# EAGLE library part PINHD-1X25 (library 00 My Pinheaders)
PIN HEADER
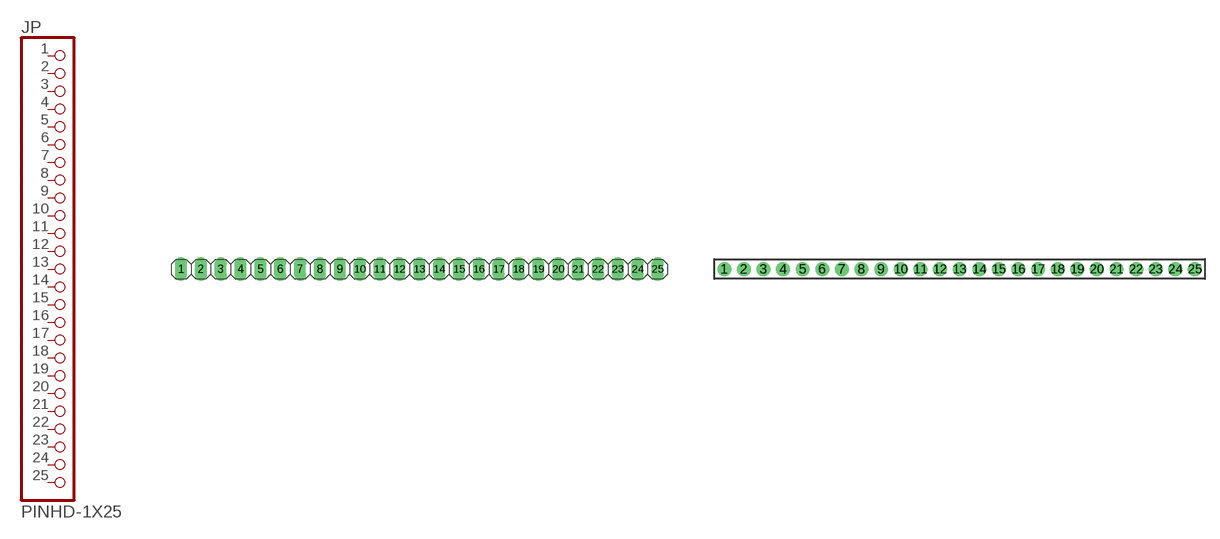
[diagram p22: symbol with the pads of 1X25; footprints 1X25, 2802S-02G2]

Designator prefix JP

## PINHD-1X25  [1X25]
1  1  pas
2  2  pas
3  3  pas
4  4  pas
5  5  pas
6  6  pas
7  7  pas
8  8  pas
9  9  pas
10  10  pas
11  11  pas
12  12  pas
13  13  pas
14  14  pas
15  15  pas
16  16  pas
17  17  pas
18  18  pas
19  19  pas
20  20  pas
21  21  pas
22  22  pas
23  23  pas
24  24  pas
25  25  pas

## PINHD-1X25_2802S-02G2  [2802S-02G2]
Pads as for 1X25

## Footprint 1X25 (pad centres in mm)
PIN HEADER
drill 1.016 long: 1 -29.21,0; 2 -26.67,0; 3 -24.13,0; 4 -21.59,0; 5 -19.05,0; 6 -16.51,0; 7 -13.97,0; 8 -11.43,0; 9 -8.89,0; 10 -6.35,0; 11 -3.81,0; 12 -1.27,0; 13 1.27,0; 14 3.81,0; 15 6.35,0; 16 8.89,0; 17 11.43,0; 18 13.97,0; 19 16.51,0; 20 19.05,0; 21 21.59,0; 22 24.13,0; 23 26.67,0; 24 29.21,0; 25 31.75,0

## Footprint 2802S-02G2 (pad centres in mm)
2mm Center - .020 inch Square Pin - Single Row Straight Header Source: http://www.commcon.com/main
drill 0.8 pad 1.422: 1 -24,0; 2 -22,0; 3 -20,0; 4 -18,0; 5 -16,0; 6 -14,0; 7 -12,0; 8 -10,0; 9 -8,0; 10 -6,0; 11 -4,0; 12 -2,0; 13 0,0; 14 2,0; 15 4,0; 16 6,0; 17 8,0; 18 10,0; 19 12,0; 20 14,0; 21 16,0; 22 18,0; 23 20,0; 24 22,0; 25 24,0